# Altium footprint library WS-ROTV.PcbLib: 14 footprints
Each footprint in its own frame and in the unit in brackets; x right, y up, seen from the top. Pads: shape width x height; smd on the part's side, far side on the other; paste and mask are expansions set on the pad; w line width, h text height; cw(c..) or ccw(c..) is an arc to the next point about the centre after c.
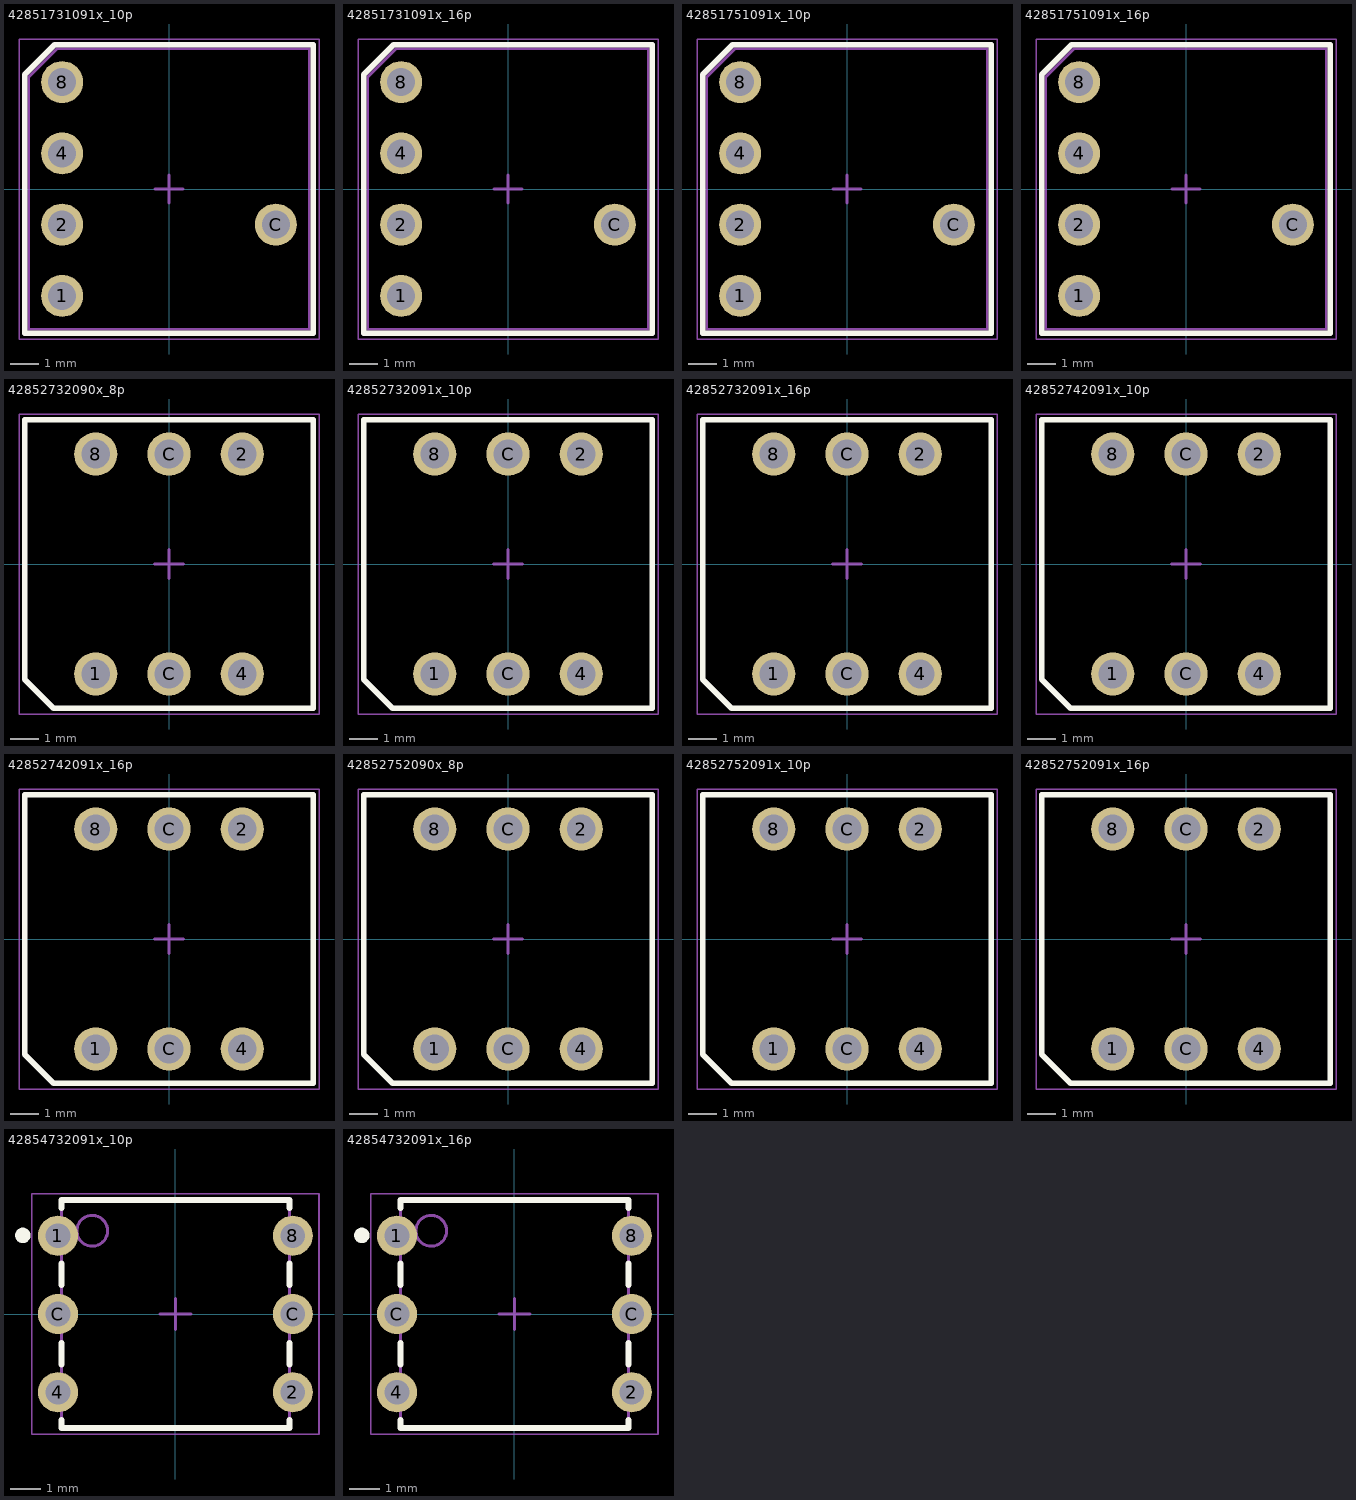
[diagram p0: the footprints below, top view; thin cyan lines are the x and y axes]

## 42851731091x_10p [mm] "Rotary Switch, THT, body 10.00 x 10.00 mm"
height 6.5
pads (5):
  round 1.5 hole 1: 1(-3.81,-3.81) 2(-3.81,-1.27) 4(-3.81,1.27) 8(-3.81,3.81) C(3.81,-1.27)
Top Overlay:
  lines w0.2: -5.15,-5.15 -5.15,4.075 -4.075,5.15 5.15,5.15 5.15,-5.15 -5.15,-5.15
Top Assembly:
  lines w0.1: -5,-5 -5,4 -4,5 5,5 5,-5 -5,-5
Top Designator:
  text ".Designator" at -3.647,-0.357 h1
Top Courtyard:
  lines w0.05: -5.35,-5.35 -5.35,5.35 5.35,5.35 5.35,-5.35 -5.35,-5.35
Top Component Center:
  lines w0.1: -0.5,0 0.5,0 ; 0,-0.5 0,0.5
3D body "428517310910.stp": height 6.55, standoff -3.7, extent -5,-5 5,5

## 42851731091x_16p [mm] "Rotary Switch, THT, body 10.00 x 10.00 mm"
height 6.5
pads (5):
  round 1.5 hole 1: 1(-3.81,-3.81) 2(-3.81,-1.27) 4(-3.81,1.27) 8(-3.81,3.81) C(3.81,-1.27)
Top Overlay:
  lines w0.2: -5.15,-5.15 -5.15,4.075 -4.075,5.15 5.15,5.15 5.15,-5.15 -5.15,-5.15
Top Assembly:
  lines w0.1: -5,-5 -5,4 -4,5 5,5 5,-5 -5,-5
Top Designator:
  text ".Designator" at -3.647,-0.357 h1
Top Courtyard:
  lines w0.05: -5.35,-5.35 -5.35,5.35 5.35,5.35 5.35,-5.35 -5.35,-5.35
Top Component Center:
  lines w0.1: -0.5,0 0.5,0 ; 0,-0.5 0,0.5
3D body "428517310916.stp": height 6.55, standoff -3.7, extent -5,-5 5,5

## 42851751091x_10p [mm] "Rotary Switch, THT, body 10.00 x 10.00 mm"
height 6.5
pads (5):
  round 1.5 hole 1: 1(-3.81,-3.81) 2(-3.81,-1.27) 4(-3.81,1.27) 8(-3.81,3.81) C(3.81,-1.27)
Top Overlay:
  lines w0.2: -5.15,-5.15 -5.15,4.075 -4.075,5.15 5.15,5.15 5.15,-5.15 -5.15,-5.15
Top Assembly:
  lines w0.1: -5,-5 -5,4 -4,5 5,5 5,-5 -5,-5
Top Designator:
  text ".Designator" at -3.647,-0.357 h1
Top Courtyard:
  lines w0.05: -5.35,-5.35 5.35,-5.35 5.35,5.35 -5.35,5.35 -5.35,-5.35
Top Component Center:
  lines w0.1: -0.5,0 0.5,0 ; 0,-0.5 0,0.5
3D body "428517510910.stp": height 6.55, standoff -3.7, extent -5,-5 5,5

## 42851751091x_16p [mm] "Rotary Switch, THT, body 10.00 x 10.00 mm"
height 6.5
pads (5):
  round 1.5 hole 1: 1(-3.81,-3.81) 2(-3.81,-1.27) 4(-3.81,1.27) 8(-3.81,3.81) C(3.81,-1.27)
Top Overlay:
  lines w0.2: -5.15,-5.15 -5.15,4.075 -4.075,5.15 5.15,5.15 5.15,-5.15 -5.15,-5.15
Top Assembly:
  lines w0.1: -5,-5 -5,4 -4,5 5,5 5,-5 -5,-5
Top Designator:
  text ".Designator" at -3.647,-0.357 h1
Top Courtyard:
  lines w0.05: -5.35,-5.35 5.35,-5.35 5.35,5.35 -5.35,5.35 -5.35,-5.35
Top Component Center:
  lines w0.1: -0.5,0 0.5,0 ; 0,-0.5 0,0.5
3D body "428517510916.stp": height 6.55, standoff -3.7, extent -5,-5 5,5

## 42852732090x_8p [mm] "10x10 mm washable THT arrow type, 8 position"
height 6.5
pads (6):
  round 1.5 hole 1: 1(-2.54,-3.81) 2(2.54,3.81) 4(2.54,-3.81) 8(-2.54,3.81) C(0,-3.81) C(0,3.81)
Top Overlay:
  lines w0.2: -5,-4 -4,-5 5,-5 5,5 -5,5 -5,-4
Top Assembly:
  lines w0.1: -5,-4 -5,5 5,5 5,-5 -4,-5 -5,-4
Top Designator:
  text ".Designator" at -3.647,-0.357 h1
Top Courtyard:
  lines w0.05: -5.2,-5.2 5.2,-5.2 5.2,5.2 -5.2,5.2 -5.2,-5.2
Top Component Center:
  lines w0.1: -0.5,0 0.5,0 ; 0,-0.5 0,0.5
3D body "428527320909_08_Pos.stp": height 6.55, standoff -3.75, extent -5,-5 5,5

## 42852732091x_10p [mm] "10x10 mm washable THT arrow type, 10 position"
height 6.5
pads (6):
  round 1.5 hole 1: 1(-2.54,-3.81) 2(2.54,3.81) 4(2.54,-3.81) 8(-2.54,3.81) C(0,-3.81) C(0,3.81)
Top Overlay:
  lines w0.2: -5,-4 -4,-5 5,-5 5,5 -5,5 -5,-4
Top Assembly:
  lines w0.1: -5,-4 -5,5 5,5 5,-5 -4,-5 -5,-4
Top Designator:
  text ".Designator" at -3.647,-0.357 h1
Top Courtyard:
  lines w0.05: -5.2,-5.2 5.2,-5.2 5.2,5.2 -5.2,5.2 -5.2,-5.2
Top Component Center:
  lines w0.1: -0.5,0 0.5,0 ; 0,-0.5 0,0.5
3D body "42852732091x_10_Pos.stp": height 6.55, standoff -3.75, extent -5,-5 5,5

## 42852732091x_16p [mm] "10x10 mm washable THT arrow type, 16 position"
height 6.5
pads (6):
  round 1.5 hole 1: 1(-2.54,-3.81) 2(2.54,3.81) 4(2.54,-3.81) 8(-2.54,3.81) C(0,-3.81) C(0,3.81)
Top Overlay:
  lines w0.2: -5,-4 -5,5 5,5 5,-5 -4,-5 -5,-4
Top Assembly:
  lines w0.1: -5,-4 -4,-5 5,-5 5,5 -5,5 -5,-4
Top Designator:
  text ".Designator" at -3.647,-0.357 h1
Top Courtyard:
  lines w0.05: -5.2,-5.2 -5.2,5.2 5.2,5.2 5.2,-5.2 -5.2,-5.2
Top Component Center:
  lines w0.1: -0.5,0 0.5,0 ; 0,-0.5 0,0.5
3D body "42852732091x_16_Pos.stp": height 6.55, standoff -3.75, extent -5,-5 5,5

## 42852742091x_10p [mm] "10x10 mm washable THT shaft type, 10 position"
height 13.8
pads (6):
  round 1.5 hole 1: 1(-2.54,-3.81) 2(2.54,3.81) 4(2.54,-3.81) 8(-2.54,3.81) C(0,-3.81) C(0,3.81)
Top Overlay:
  lines w0.2: -5,-4 -4,-5 5,-5 5,5 -5,5 -5,-4
Top Assembly:
  lines w0.1: -5,-4 -5,5 5,5 5,-5 -4,-5 -5,-4
Top Designator:
  text ".Designator" at -3.647,-0.357 h1
Top Courtyard:
  lines w0.05: -5.2,-5.2 5.2,-5.2 5.2,5.2 -5.2,5.2 -5.2,-5.2
Top Component Center:
  lines w0.1: -0.5,0 0.5,0 ; 0,-0.5 0,0.5
3D body "42852742091x_10_Pos.stp": height 13.85, standoff -3.75, extent -5,-5 5,5

## 42852742091x_16p [mm] "10x10 mm washable THT shaft type, 16 position"
height 13.8
pads (6):
  round 1.5 hole 1: 1(-2.54,-3.81) 2(2.54,3.81) 4(2.54,-3.81) 8(-2.54,3.81) C(0,-3.81) C(0,3.81)
Top Overlay:
  lines w0.2: -5,-4 -5,5 5,5 5,-5 -4,-5 -5,-4
Top Assembly:
  lines w0.1: -5,-4 -4,-5 5,-5 5,5 -5,5 -5,-4
Top Designator:
  text ".Designator" at -3.647,-0.357 h1
Top Courtyard:
  lines w0.05: -5.2,-5.2 -5.2,5.2 5.2,5.2 5.2,-5.2 -5.2,-5.2
Top Component Center:
  lines w0.1: -0.5,0 0.5,0 ; 0,-0.5 0,0.5
3D body "42852742091x_16_Pos.stp": height 13.85, standoff -3.75, extent -5,-5 5,5

## 42852752090x_8p [mm] "10x10 mm washable THT cross type, 8 position"
height 6.5
pads (6):
  round 1.5 hole 1: 1(-2.54,-3.81) 2(2.54,3.81) 4(2.54,-3.81) 8(-2.54,3.81) C(0,-3.81) C(0,3.81)
Top Overlay:
  lines w0.2: -5,-4 -5,5 5,5 5,-5 -4,-5 -5,-4
Top Assembly:
  lines w0.1: -5,-4 -4,-5 5,-5 5,5 -5,5 -5,-4
Top Designator:
  text ".Designator" at -3.647,-0.357 h1
Top Courtyard:
  lines w0.05: -5.2,-5.2 -5.2,5.2 5.2,5.2 5.2,-5.2 -5.2,-5.2
Top Component Center:
  lines w0.1: -0.5,0 0.5,0 ; 0,-0.5 0,0.5
3D body "42852752090x_08_Pos.stp": height 6.55, standoff -3.75, extent -5,-5 5,5

## 42852752091x_10p [mm] "10x10 mm washable THT cross type, 10 position"
height 6.5
pads (6):
  round 1.5 hole 1: 1(-2.54,-3.81) 2(2.54,3.81) 4(2.54,-3.81) 8(-2.54,3.81) C(0,-3.81) C(0,3.81)
Top Overlay:
  lines w0.2: -5,-4 -5,5 5,5 5,-5 -4,-5 -5,-4
Top Assembly:
  lines w0.1: -5,-4 -4,-5 5,-5 5,5 -5,5 -5,-4
Top Designator:
  text ".Designator" at -3.647,-0.357 h1
Top Courtyard:
  lines w0.05: -5.2,-5.2 -5.2,5.2 5.2,5.2 5.2,-5.2 -5.2,-5.2
Top Component Center:
  lines w0.1: -0.5,0 0.5,0 ; 0,-0.5 0,0.5
3D body "42852752091x_10_Pos.stp": height 6.55, standoff -3.75, extent -5,-5 5,5

## 42852752091x_16p [mm] "10x10 mm washable THT cross type, 16 position"
height 6.5
pads (6):
  round 1.5 hole 1: 1(-2.54,-3.81) 2(2.54,3.81) 4(2.54,-3.81) 8(-2.54,3.81) C(0,-3.81) C(0,3.81)
Top Overlay:
  lines w0.2: -5,-4 -5,5 5,5 5,-5 -4,-5 -5,-4
Top Assembly:
  lines w0.1: -5,-4 -4,-5 5,-5 5,5 -5,5 -5,-4
Top Designator:
  text ".Designator" at -3.647,-0.357 h1
Top Courtyard:
  lines w0.05: -5.2,-5.2 -5.2,5.2 5.2,5.2 5.2,-5.2 -5.2,-5.2
Top Component Center:
  lines w0.1: -0.5,0 0.5,0 ; 0,-0.5 0,0.5
3D body "42852752091x_16_Pos.stp": height 6.55, standoff -3.75, extent -5,-5 5,5

## 42854732091x_10p [mm] "7x7 mm washable THT arrow type, 10 position"
height 3.65
pads (6):
  round 1.3 hole 0.8: 1(-3.81,2.54) 2(3.81,-2.54) 4(-3.81,-2.54) 8(3.81,2.54) C(-3.81,0) C(3.81,0)
Top Overlay:
  circle w0.25: c-4.95,2.55 r0.125
  lines w0.2: -3.7,-3.45 -3.7,-3.7 3.7,-3.7 3.7,-3.45 ; -3.7,-1.63 -3.7,-0.95 ; -3.7,0.95 -3.7,1.63 ; -3.7,3.45 -3.7,3.7 3.7,3.7 3.7,3.45 ; 3.7,-1.63 3.7,-0.95 ; 3.7,0.95 3.7,1.63
Top Assembly:
  circle w0.1: c-2.7,2.7 r0.5
  lines w0.1: -3.7,-3.7 3.7,-3.7 3.7,3.7 -3.7,3.7 -3.7,-3.7
Top Designator:
  text ".Designator" at -3.647,-0.357 h1
Top Courtyard:
  lines w0.05: -4.66,-3.9 4.66,-3.9 4.66,3.9 -4.66,3.9 -4.66,-3.9
Top Component Center:
  lines w0.1: -0.5,0 0.5,0 ; 0,-0.5 0,0.5
3D body "42854732091x_10 Position.stp": height 3.75, standoff -3.45, extent -3.935,-3.7 3.935,3.7

## 42854732091x_16p [mm] "7x7 mm washable THT arrow type, 16 position"
height 3.65
pads (6):
  round 1.3 hole 0.8: 1(-3.81,2.54) 2(3.81,-2.54) 4(-3.81,-2.54) 8(3.81,2.54) C(-3.81,0) C(3.81,0)
Top Overlay:
  circle w0.25: c-4.95,2.55 r0.125
  lines w0.2: -3.7,-3.45 -3.7,-3.7 3.7,-3.7 3.7,-3.45 ; -3.7,-1.63 -3.7,-0.95 ; -3.7,0.95 -3.7,1.63 ; -3.7,3.45 -3.7,3.7 3.7,3.7 3.7,3.45 ; 3.7,-1.63 3.7,-0.95 ; 3.7,0.95 3.7,1.63
Top Assembly:
  circle w0.1: c-2.7,2.7 r0.5
  lines w0.1: -3.7,-3.7 -3.7,3.7 3.7,3.7 3.7,-3.7 -3.7,-3.7
Top Designator:
  text ".Designator" at -3.647,-0.357 h1
Top Courtyard:
  lines w0.05: -4.66,-3.9 -4.66,3.9 4.66,3.9 4.66,-3.9 -4.66,-3.9
Top Component Center:
  lines w0.1: -0.5,0 0.5,0 ; 0,-0.5 0,0.5
3D body "42854732091x_16 Position.stp": height 3.75, standoff -3.45, extent -3.935,-3.7 3.935,3.7